# EAGLE library part ETX-X4 (library etx-board)
IDE 1, IDE 2, Ethernet, Miscellaneous ETX Board Connector 100 Pos. Source: www.kontron.com/techlib/whitepapers/etx_spec.pdf
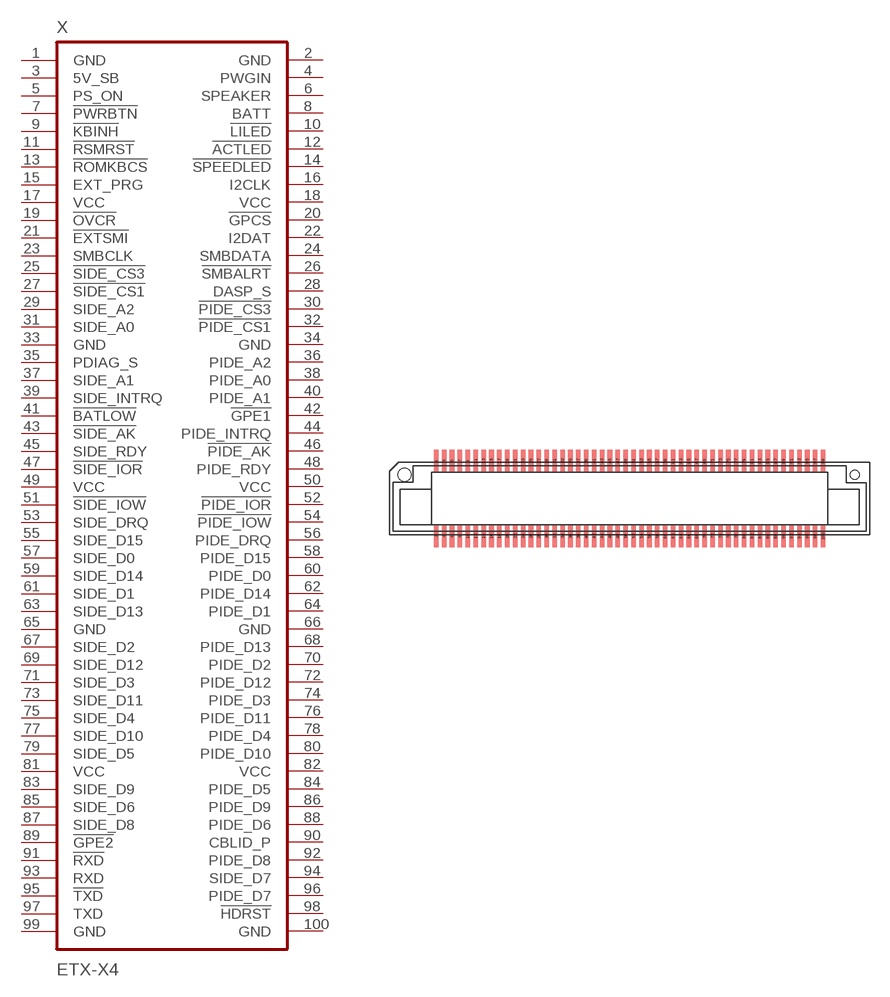
[diagram p0: symbol with the pads of FX8-100S-SV; footprint FX8-100S-SV]

Designator prefix X

## ETX-X4  [FX8-100S-SV]
1  GND  pwr
2  GND  pwr
3  5V_SB
4  PWGIN
5  PS_ON
6  SPEAKER
7  !PWRBTN
8  BATT
9  !KBINH
10  !LILED
11  !RSMRST
12  !ACTLED
13  !ROMKBCS
14  !SPEEDLED
15  EXT_PRG
16  I2CLK
17  VCC  pwr
18  VCC  pwr
19  !OVCR
20  !GPCS
21  !EXTSMI
22  I2DAT
23  SMBCLK
24  SMBDATA
25  !SIDE_CS3
26  !SMBALRT
27  !SIDE_CS1
28  DASP_S
29  SIDE_A2
30  !PIDE_CS3
31  SIDE_A0
32  !PIDE_CS1
33  GND  pwr
34  GND  pwr
35  PDIAG_S
36  PIDE_A2
37  SIDE_A1
38  PIDE_A0
39  SIDE_INTRQ
40  PIDE_A1
41  !BATLOW
42  !GPE1
43  !SIDE_AK
44  PIDE_INTRQ
45  SIDE_RDY
46  !PIDE_AK
47  !SIDE_IOR
48  PIDE_RDY
49  VCC  pwr
50  VCC  pwr
51  !SIDE_IOW
52  !PIDE_IOR
53  SIDE_DRQ
54  !PIDE_IOW
55  SIDE_D15
56  PIDE_DRQ
57  SIDE_D0
58  PIDE_D15
59  SIDE_D14
60  PIDE_D0
61  SIDE_D1
62  PIDE_D14
63  SIDE_D13
64  PIDE_D1
65  GND  pwr
66  GND  pwr
67  SIDE_D2
68  PIDE_D13
69  SIDE_D12
70  PIDE_D2
71  SIDE_D3
72  PIDE_D12
73  SIDE_D11
74  PIDE_D3
75  SIDE_D4
76  PIDE_D11
77  SIDE_D10
78  PIDE_D4
79  SIDE_D5
80  PIDE_D10
81  VCC  pwr
82  VCC  pwr
83  SIDE_D9
84  PIDE_D5
85  SIDE_D6
86  PIDE_D9
87  SIDE_D8
88  PIDE_D6
89  !GPE2
90  CBLID_P
91  !RXD
92  PIDE_D8
93  RXD
94  SIDE_D7
95  !TXD
96  PIDE_D7
97  TXD
98  !HDRST
99  GND  pwr
100  GND  pwr

## Footprint FX8-100S-SV (pad centres in mm)
HIROSE - ETX Board Connector 100 Pos. Source: www.hirose.co.jp/cataloge_hp/e57800016.pdf www.kontron.com/techlib/whitepapers/etx_spec.pdf
smd 0.35 x 1.7: 1 -14.7,2.85; 2 -14.7,-2.85; 3 -14.1,2.85; 4 -14.1,-2.85; 5 -13.5,2.85; 6 -13.5,-2.85; 7 -12.9,2.85; 8 -12.9,-2.85; 9 -12.3,2.85; 10 -12.3,-2.85; 11 -11.7,2.85; 12 -11.7,-2.85; 13 -11.1,2.85; 14 -11.1,-2.85; 15 -10.5,2.85; 16 -10.5,-2.85; 17 -9.9,2.85; 18 -9.9,-2.85; 19 -9.3,2.85; 20 -9.3,-2.85; 21 -8.7,2.85; 22 -8.7,-2.85; 23 -8.1,2.85; 24 -8.1,-2.85; 25 -7.5,2.85; 26 -7.5,-2.85; 27 -6.9,2.85; 28 -6.9,-2.85; 29 -6.3,2.85; 30 -6.3,-2.85; 31 -5.7,2.85; 32 -5.7,-2.85; 33 -5.1,2.85; 34 -5.1,-2.85; 35 -4.5,2.85; 36 -4.5,-2.85; 37 -3.9,2.85; 38 -3.9,-2.85; 39 -3.3,2.85; 40 -3.3,-2.85; 41 -2.7,2.85; 42 -2.7,-2.85; 43 -2.1,2.85; 44 -2.1,-2.85; 45 -1.5,2.85; 46 -1.5,-2.85; 47 -0.9,2.85; 48 -0.9,-2.85; 49 -0.3,2.85; 50 -0.3,-2.85; 51 0.3,2.85; 52 0.3,-2.85; 53 0.9,2.85; 54 0.9,-2.85; 55 1.5,2.85; 56 1.5,-2.85; 57 2.1,2.85; 58 2.1,-2.85; 59 2.7,2.85; 60 2.7,-2.85; 61 3.3,2.85; 62 3.3,-2.85; 63 3.9,2.85; 64 3.9,-2.85; 65 4.5,2.85; 66 4.5,-2.85; 67 5.1,2.85; 68 5.1,-2.85; 69 5.7,2.85; 70 5.7,-2.85; 71 6.3,2.85; 72 6.3,-2.85; 73 6.9,2.85; 74 6.9,-2.85; 75 7.5,2.85; 76 7.5,-2.85; 77 8.1,2.85; 78 8.1,-2.85; 79 8.7,2.85; 80 8.7,-2.85; 81 9.3,2.85; 82 9.3,-2.85; 83 9.9,2.85; 84 9.9,-2.85; 85 10.5,2.85; 86 10.5,-2.85; 87 11.1,2.85; 88 11.1,-2.85; 89 11.7,2.85; 90 11.7,-2.85; 91 12.3,2.85; 92 12.3,-2.85; 93 12.9,2.85; 94 12.9,-2.85; 95 13.5,2.85; 96 13.5,-2.85; 97 14.1,2.85; 98 14.1,-2.85; 99 14.7,2.85; 100 14.7,-2.85
hole 1 at -17.1,1.8
hole 0.7 at 17.1,1.8